# EAGLE library part TL062 (library m_ic-signal)
TL062x Dual Low-Power JFET-Input Operational Amplifiers Features Very Low Power Consumption Typical Supply Current: 200 μA (Per Amplifier) Wide Common-Mode and Differential Voltage Ranges Low Input Bias and Offset Currents Common-Mode Input Voltage Range Includes VCC+ Output Short-Circuit Protection High Input Impedance: JFET-Input Stage Internal Frequency Compensation Latch-Up-Free Operation High Slew Rate: 3.5 V/μs Typical On Products Compliant to MIL-PRF-38535, All Parameters Are Tested Unless Otherwise Noted. On All Other Products, Production Processing Does Not Necessarily Include Testing of All Parameters. Applications Tablets White goods Personal electronics Computers Description The JFET-input operational amplifiers of the TL06x series are designed as low-power versions of the TL08x series amplifiers. They feature high input impedance, wide bandwidth, high slew rate, and low input offset and input bias currents. The TL06x series features the same terminal assignments as the TL07x and TL08x series.
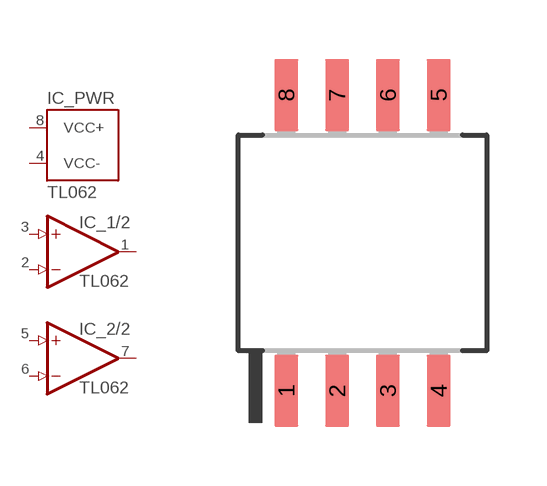
[diagram p13: symbol with the pads of R-PDSO-G8; footprint R-PDSO-G8]

Designator prefix IC; gates _PWR=SUPPLY _1/2=OPAMP_JFET _2/2=OPAMP_JFET

## TL062D (MANUF: TI; PARTNUM: TL062ID*; VALUE: TL062)  [R-PDSO-G8]
1  _1/2:OUT  pas
2  _1/2:-IN  pas
3  _1/2:+IN  pas
4  _PWR:VCC-  pas
5  _2/2:+IN  pas
6  _2/2:-IN  pas
7  _2/2:OUT  pas
8  _PWR:VCC+  pas

## Footprint R-PDSO-G8 (pad centres in mm)
R-PDSO-G8 Plastic Small Outline Package Data from TI drawings 4212188/A 09/11, 4040063/C 03/03 Added 2019-09-02
smd 0.6 x 1.8: 1 -1.905,-3.7; 2 -0.635,-3.7; 3 0.635,-3.7; 4 1.905,-3.7; 5 1.905,3.7; 6 0.635,3.7; 7 -0.635,3.7; 8 -1.905,3.7